# Altium schematic symbol library FM93C66MT8.Schlib: 1 symbol
Pins are listed as number, name and electrical type; pins without a type are passive.

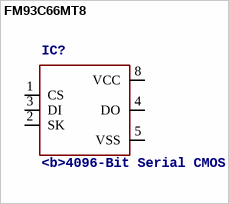
[diagram p0: symbol FM93C66MT8]

## FM93C66MT8
designator IC?, comment <b>4096-Bit Serial CMOS EEPROM</b> (MICROWIRE TM Synchronous Bus)<p> / Source: www.fairchildsemi.com
footprint TSSOP8
pins: 1 CS, 2 SK, 3 DI, 4 DO (hiz), 5 VSS (power), 8 VCC (power)